# Altium integrated library Celestial Library.IntLib: 629 symbols (part 18 of 28)

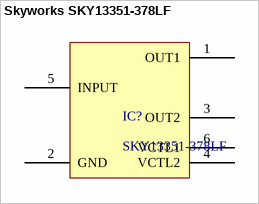
[diagram p391: symbol Skyworks SKY13351-378LF]

## Skyworks SKY13351-378LF
designator IC?, comment SKY13351-378LF
20 MHz-6.0 GHz GaAs SPDT Switch
pins: 1 OUT1, 2 GND, 3 OUT2, 4 VCTL2, 5 INPUT, 6 VCTL1


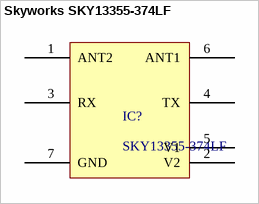
[diagram p392: symbol Skyworks SKY13355-374LF]

## Skyworks SKY13355-374LF
designator IC?, comment SKY13355-374LF
0.1-6.0 GHz DPDT Switch
pins: 1 ANT2, 2 V2, 3 RX, 4 TX, 5 V1, 6 ANT1, 7 GND


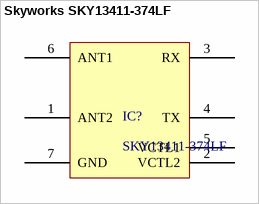
[diagram p393: symbol Skyworks SKY13411-374LF]

## Skyworks SKY13411-374LF
designator IC?, comment SKY13411-374LF
0.1-6.0 GHz DPDT Switch
pins: 1 ANT2, 2 VCTL2, 3 RX, 4 TX, 5 VCTL1, 6 ANT1, 7 GND


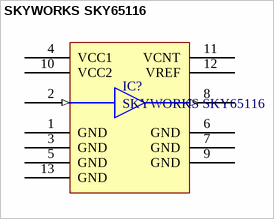
[diagram p394: symbol SKYWORKS SKY65116]

## SKYWORKS SKY65116
designator IC?
390-500 MHz Linear Power Amplifier
pins: 1 GND "Desc1", 2 IN (in) "Desc1", 3 GND "Desc1", 4 VCC1 "Desc1", 5 GND "Desc1", 6 GND "Desc1", 7 GND "Desc1", 8 OUT (out) "Desc1", 9 GND "Desc1", 10 VCC2 "Desc1", 11 VCNT "Desc1", 12 VREF "Desc1", 13 GND "Desc1"


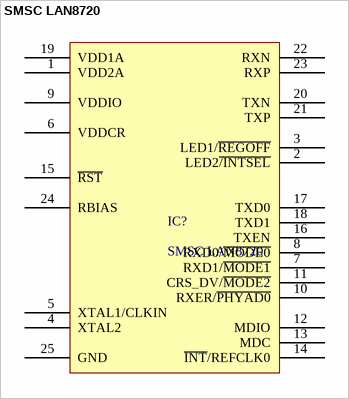
[diagram p395: symbol SMSC LAN8720]

## SMSC LAN8720
designator IC?
Small Footprint RMII 10/100 Ethernet  Transceiver with HP Auto-MDIX Support
pins: 1 VDD2A, 2 LED2~{/INTSEL}, 3 LED1/~{REGOFF}, 4 XTAL2, 5 XTAL1/CLKIN, 6 VDDCR, 7 RXD1/~{MODE1}, 8 RXD0/~{MODE0}, 9 VDDIO, 10 RXER/~{PHYAD0}, 11 CRS_DV/~{MODE2}, 12 MDIO, 13 MDC, 14 ~{INT}/REFCLK0, 15 ~{RST}, 16 TXEN, 17 TXD0, 18 TXD1, 19 VDD1A, 20 TXN, 21 TXP, 22 RXN, 23 RXP, 24 RBIAS, 25 GND


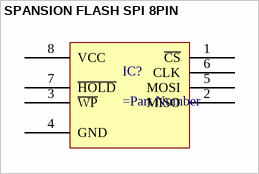
[diagram p396: symbol SPANSION FLASH SPI 8PIN]

## SPANSION FLASH SPI 8PIN
designator IC?
pins: 1 ~{CS}, 2 MISO, 3 ~{WP}, 4 GND, 5 MOSI, 6 CLK, 7 ~{HOLD}, 8 VCC


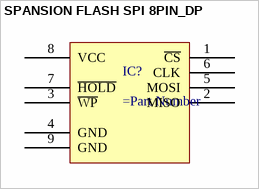
[diagram p397: symbol SPANSION FLASH SPI 8PIN_DP]

## SPANSION FLASH SPI 8PIN_DP
designator IC?
pins: 1 ~{CS}, 2 MISO, 3 ~{WP}, 4 GND, 5 MOSI, 6 CLK, 7 ~{HOLD}, 8 VCC, 9 GND


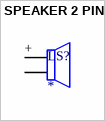
[diagram p398: symbol SPEAKER 2 PIN]

## SPEAKER 2 PIN
designator LS?
pins: +, -


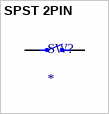
[diagram p399: symbol SPST 2PIN]

## SPST 2PIN
designator SW?
pins: 1, 2


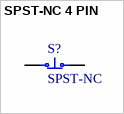
[diagram p400: symbol SPST-NC 4 PIN]

## SPST-NC 4 PIN
designator S?, comment SPST-NC
pins: 1, 2, 3, 4


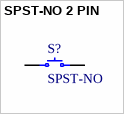
[diagram p401: symbol SPST-NO 2 PIN]

## SPST-NO 2 PIN
designator S?, comment SPST-NO
pins: 1, 2


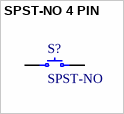
[diagram p402: symbol SPST-NO 4 PIN]

## SPST-NO 4 PIN
designator S?, comment SPST-NO
pins: 1, 2, 3, 4


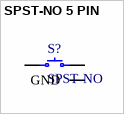
[diagram p403: symbol SPST-NO 5 PIN]

## SPST-NO 5 PIN
designator S?, comment SPST-NO
pins: 1, 2, 3, 4, 5 GND


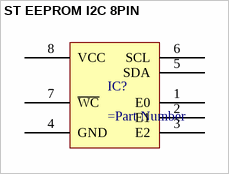
[diagram p404: symbol ST EEPROM I2C 8PIN]

## ST EEPROM I2C 8PIN
designator IC?
pins: 1 E0, 2 E1, 3 E2, 4 GND, 5 SDA, 6 SCL, 7 ~{WC}, 8 VCC


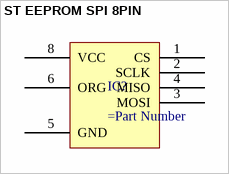
[diagram p405: symbol ST EEPROM SPI 8PIN]

## ST EEPROM SPI 8PIN
designator IC?
pins: 1 CS, 2 SCLK, 3 MOSI, 4 MISO, 5 GND, 6 ORG, 8 VCC


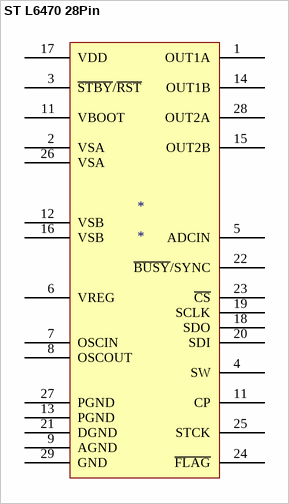
[diagram p406: symbol ST L6470 28Pin]

## ST L6470 28Pin
designator *
pins: 1 OUT1A, 2 VSA, 3 ~{STBY}/~{RST}, 4 SW, 5 ADCIN, 6 VREG, 7 OSCIN, 8 OSCOUT, 9 AGND, 11 CP, 11 VBOOT, 12 VSB, 13 PGND, 14 OUT1B, 15 OUT2B, 16 VSB, 17 VDD, 18 SDO, 19 SCLK, 20 SDI, 21 DGND, 22 ~{BUSY}/SYNC, 23 ~{CS}, 24 ~{FLAG}, 25 STCK, 26 VSA, 27 PGND, 28 OUT2A, 29 GND


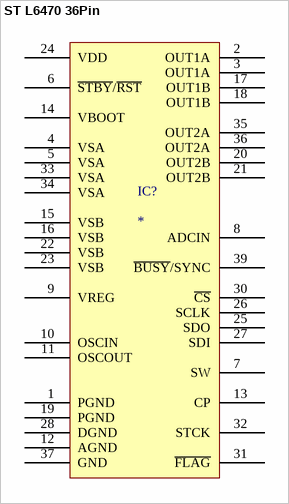
[diagram p407: symbol ST L6470 36Pin]

## ST L6470 36Pin
designator IC?
pins: 1 PGND, 2 OUT1A, 3 OUT1A, 4 VSA, 5 VSA, 6 ~{STBY}/~{RST}, 7 SW, 8 ADCIN, 9 VREG, 10 OSCIN, 11 OSCOUT, 12 AGND, 13 CP, 14 VBOOT, 15 VSB, 16 VSB, 17 OUT1B, 18 OUT1B, 19 PGND, 20 OUT2B, 21 OUT2B, 22 VSB, 23 VSB, 24 VDD, 25 SDO, 26 SCLK, 27 SDI, 28 DGND, 30 ~{CS}, 31 ~{FLAG}, 32 STCK, 33 VSA, 34 VSA, 35 OUT2A, 36 OUT2A, 37 GND, 39 ~{BUSY}/SYNC


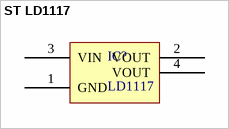
[diagram p408: symbol ST LD1117]

## ST LD1117
designator IC?, comment LD1117
Wide Temperature Three-Pin Adjustable Regulator
pins: 1 GND, 2 VOUT, 3 VIN, 4 VOUT


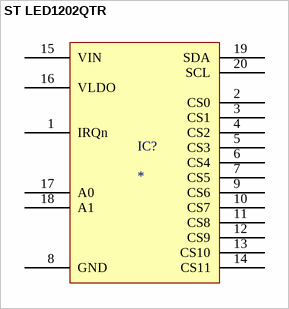
[diagram p409: symbol ST LED1202QTR]

## ST LED1202QTR
designator IC?
pins: 1 IRQn, 2 CS0, 3 CS1, 4 CS2, 5 CS3, 6 CS4, 7 CS5, 8 GND, 9 CS6, 10 CS7, 11 CS8, 12 CS9, 13 CS10, 14 CS11, 15 VIN, 16 VLDO, 17 A0, 18 A1, 19 SDA, 20 SCL


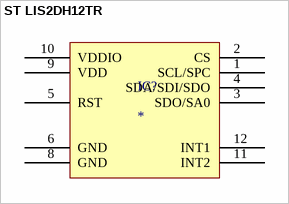
[diagram p410: symbol ST LIS2DH12TR]

## ST LIS2DH12TR
designator IC?
pins: 1 SCL/SPC, 2 CS, 3 SDO/SA0, 4 SDA/SDI/SDO, 5 RST, 6 GND, 8 GND, 9 VDD, 10 VDDIO, 11 INT2, 12 INT1


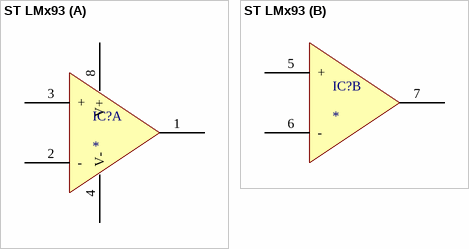
[diagram p411: symbol ST LMx93]

## ST LMx93
designator IC?
part A pins: 1 OUTA, 2 -, 3 +, 4 V-, 8 V+
part B pins: 5 +, 6 -, 7 OUTB


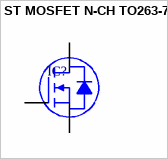
[diagram p412: symbol ST MOSFET N-CH TO263-7]

## ST MOSFET N-CH TO263-7
designator IC?
pins: 1 G, 2 S, 3 S, 5 S, 6 S, 7 S, 8 D


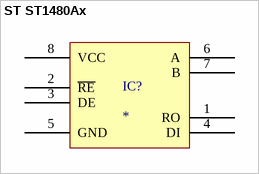
[diagram p413: symbol ST ST1480Ax]

## ST ST1480Ax
designator IC?
pins: 1 RO, 2 ~{RE}, 3 DE, 4 DI, 5 GND, 6 A, 7 B, 8 VCC
